# EAGLE library part HDMI-HOLES (library harrison)
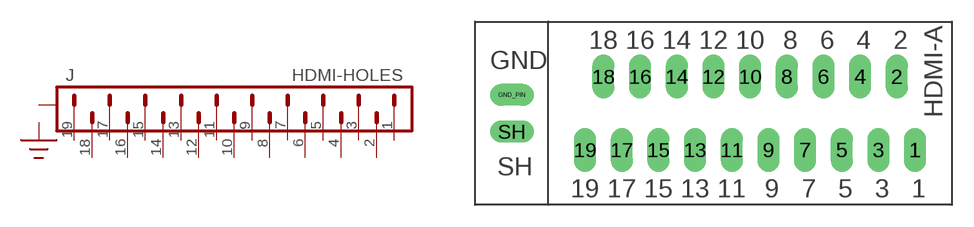
[diagram p67: symbol with the pads of HDMI_HOLES; footprint HDMI_HOLES]

Designator prefix J

## HDMI-HOLES  [HDMI_HOLES]
1  1  pas
2  2  pas
3  3  pas
4  4  pas
5  5  pas
6  6  pas
7  7  pas
8  8  pas
9  9  pas
10  10  pas
11  11  pas
12  12  pas
13  13  pas
14  14  pas
15  15  pas
16  16  pas
17  17  pas
18  18  pas
19  19  pas
GND_PIN  GND_PIN  pas
SH  SH  pas

## Footprint HDMI_HOLES (pad centres in mm)
drill 1.016 long: 1 11.43,-2.54; 2 10.16,2.54; 3 8.89,-2.54; 4 7.62,2.54; 5 6.35,-2.54; 6 5.08,2.54; 7 3.81,-2.54; 8 2.54,2.54; 9 1.27,-2.54; 10 0,2.54; 11 -1.27,-2.54; 12 -2.54,2.54; 13 -3.81,-2.54; 14 -5.08,2.54; 15 -6.35,-2.54; 16 -7.62,2.54; 17 -8.89,-2.54; 18 -10.16,2.54; 19 -11.43,-2.54; GND_PIN -16.51,1.27; SH -16.51,-1.27